# EAGLE library part ADUM3401 (library ads4)
Analog Devices iCoupler 4-channel (3/1) digital isolator
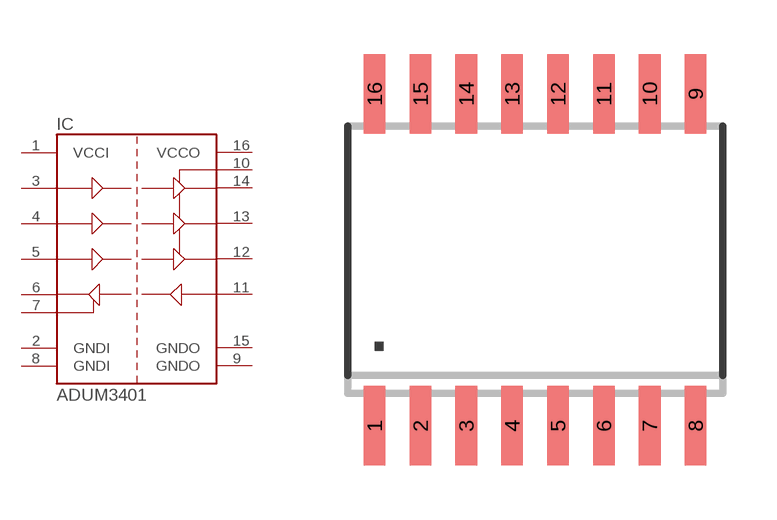
[diagram p75: symbol with the pads of SO16W; footprint SO16W]

Designator prefix IC

## ADUM3401RW-16  [SO16W]
1  VCCI  pwr
2  GNDI  pwr
3  VIA  in
4  VIB  in
5  VIC  in
6  VOD  out
7  VE1  in
8  GNDI  pwr
9  GNDO  pwr
10  VE2  in
11  VID  in
12  VOC  out
13  VOB  out
14  VOA  out
15  GNDO  pwr
16  VCCO  pwr

## Footprint SO16W (pad centres in mm)
SMALL OUTLINE INTEGRATED CIRCUIT wide body 7.5 mm/JEDEC MS-013AA
smd 0.6 x 2.2: 1 -4.445,-4.6; 2 -3.175,-4.6; 3 -1.905,-4.6; 4 -0.635,-4.6; 5 0.635,-4.6; 6 1.905,-4.6; 7 3.175,-4.6; 8 4.445,-4.6; 9 4.445,4.6; 10 3.175,4.6; 11 1.905,4.6; 12 0.635,4.6; 13 -0.635,4.6; 14 -1.905,4.6; 15 -3.175,4.6; 16 -4.445,4.6